# Altium footprint library transformers.PcbLib: 3 footprints
Each footprint in its own frame and in the unit in brackets; x right, y up, seen from the top. Pads: shape width x height; smd on the part's side, far side on the other; paste and mask are expansions set on the pad; w line width, h text height; cw(c..) or ccw(c..) is an arc to the next point about the centre after c.
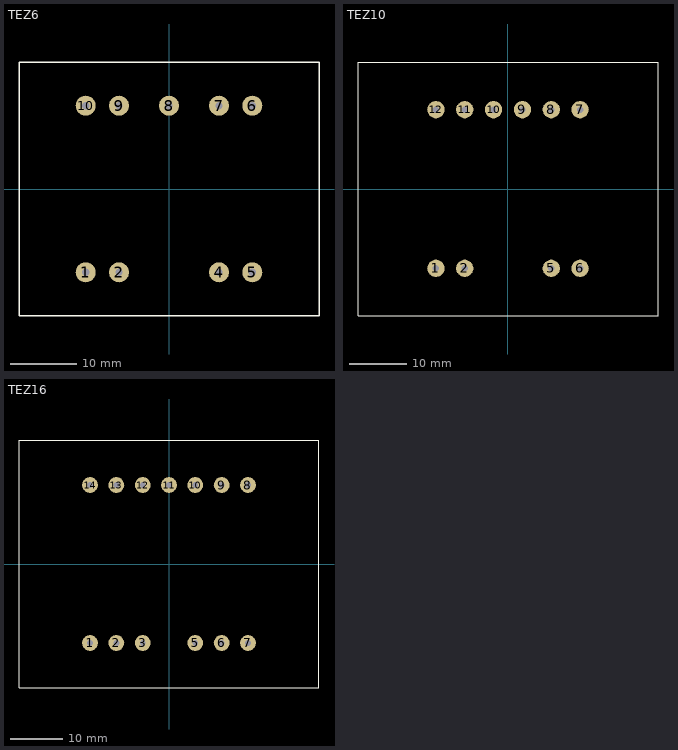
[diagram p0: the footprints below, top view; thin cyan lines are the x and y axes]

## TEZ6 [mm]
pads (9):
  round 3 hole 1.1: 1(-12.5,-12.5) 2(-7.5,-12.5) 4(7.5,-12.5) 5(12.5,-12.5) 6(12.5,12.5) 7(7.5,12.5) 8(0,12.5) 9(-7.5,12.5) 10(-12.5,12.5)
Top Overlay:
  lines w0.2: -22.5,-19 22.5,-19 22.5,19 -22.5,19 -22.5,-19
3D body: height 27, standoff 0, extent -22.5,-19 22.5,19
3D body: height 32, standoff 27, extent -18,-16 18,16

## TEZ10 [mm]
pads (10):
  round 3 hole 1.1: 1(-12.5,-13.75) 2(-7.5,-13.75) 5(7.5,-13.75) 6(12.5,-13.75) 7(12.5,13.75) 8(7.5,13.75) 9(2.5,13.75) 10(-2.5,13.75) 11(-7.5,13.75) 12(-12.5,13.75)
Top Overlay:
  lines w0.2: -26,-22 26,-22 26,22 -26,22 -26,-22
3D body: height 30, standoff 0, extent -26,-22 26,22
3D body: height 35, standoff 30, extent -21,-17 21,17

## TEZ16 [mm]
pads (13):
  round 3 hole 1.1: 1(-15,-15) 2(-10,-15) 3(-5,-15) 5(5,-15) 6(10,-15) 7(15,-15) 8(15,15) 9(10,15) 10(5,15) 11(0,15) 12(-5,15) 13(-10,15) 14(-15,15)
Top Overlay:
  lines w0.2: -28.5,-23.5 28.5,-23.5 28.5,23.5 -28.5,23.5 -28.5,-23.5
3D body: height 34, standoff 0, extent -28.5,-23.5 28.5,23.5
3D body: height 39, standoff 34, extent -23.5,-18.5 23.5,18.5